# Altium footprint library pot_ST-32.PcbLib: 1 footprints
Each footprint in its own frame and in the unit in brackets; x right, y up, seen from the top. Pads: shape width x height; smd on the part's side, far side on the other; paste and mask are expansions set on the pad; w line width, h text height; cw(c..) or ccw(c..) is an arc to the next point about the centre after c.
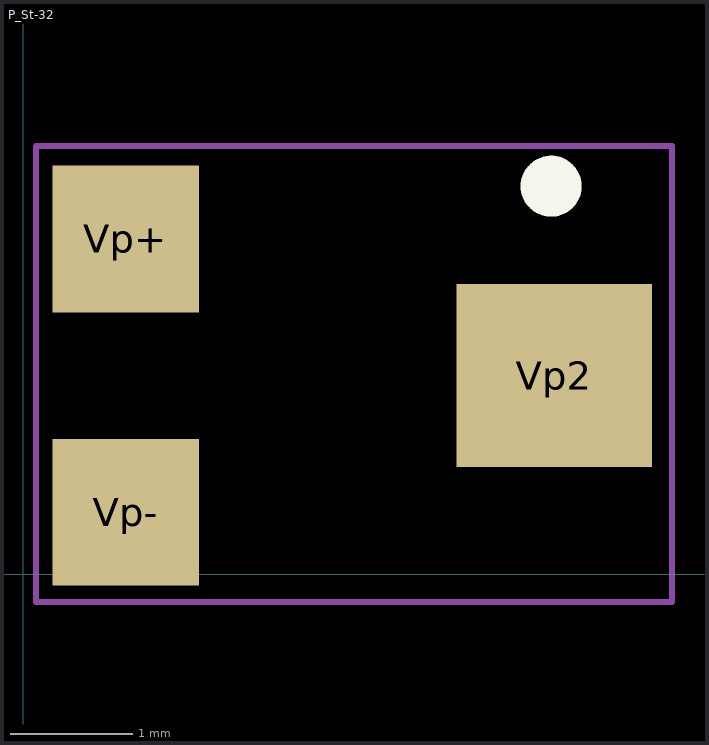
[diagram p0: the footprint, top view; thin cyan lines are the x and y axes]

## P_St-32 [mm] "3-Leads, Body 3.2x4.6mm"
height 1.1
pads (3):
  rect 1.6x1.5 smd: Vp2(4.343,1.626)
  rect 1.2x1.2 smd: Vp+(0.838,2.743) Vp-(0.838,0.508)
Top Overlay:
  circle w0.25: c4.318,3.175 r0.125
Mechanical 15:
  lines w0.05: 0.102,-0.229 0.102,3.505 5.309,3.505 5.309,-0.229 0.102,-0.229